# EAGLE library part -SJ-43504-SMT-TR_SJ-43504-SMT-TR (library piboy_new)
SMT Audio Jack -mid mount for low profile applications -shielded -two internal switches, tip and ring
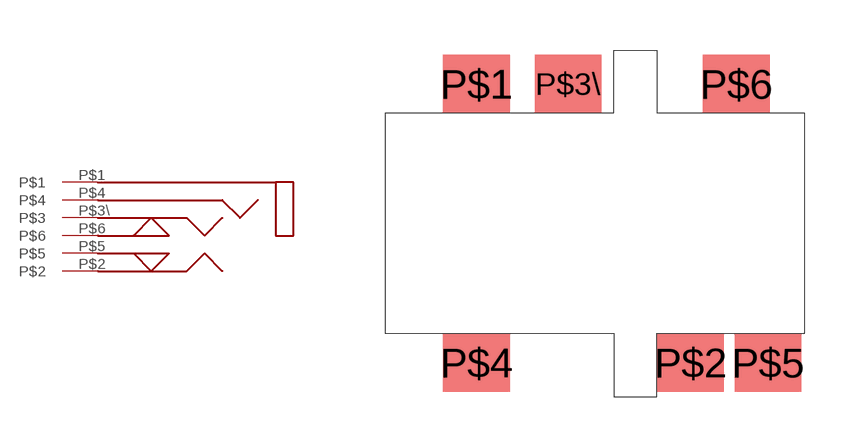
[diagram p0: symbol with the pads of -SJ-43504-SMT-TR_SJ-43504-SMT-TR; footprint -SJ-43504-SMT-TR_SJ-43504-SMT-TR]

Designator prefix -

## -SJ-43504-SMT-TR_SJ-43504-SMT-TR  [-SJ-43504-SMT-TR_SJ-43504-SMT-TR]
P$1  P$1
P$2  P$2
P$3\  P$3
P$4  P$4
P$5  P$5
P$6  P$6

## Footprint -SJ-43504-SMT-TR_SJ-43504-SMT-TR (pad centres in mm)
smd 2 x 1.75: P$1 2.75,7.48; P$2 9.18,-0.88; P$3\ 5.5,7.48; P$4 2.75,-0.88; P$5 11.5,-0.88; P$6 10.55,7.48